# Altium footprint library AnalogHmwpcblib.PcbLib: 11 footprints
Each footprint in its own frame and in the unit in brackets; x right, y up, seen from the top. Pads: shape width x height; smd on the part's side, far side on the other; paste and mask are expansions set on the pad; w line width, h text height; cw(c..) or ccw(c..) is an arc to the next point about the centre after c.
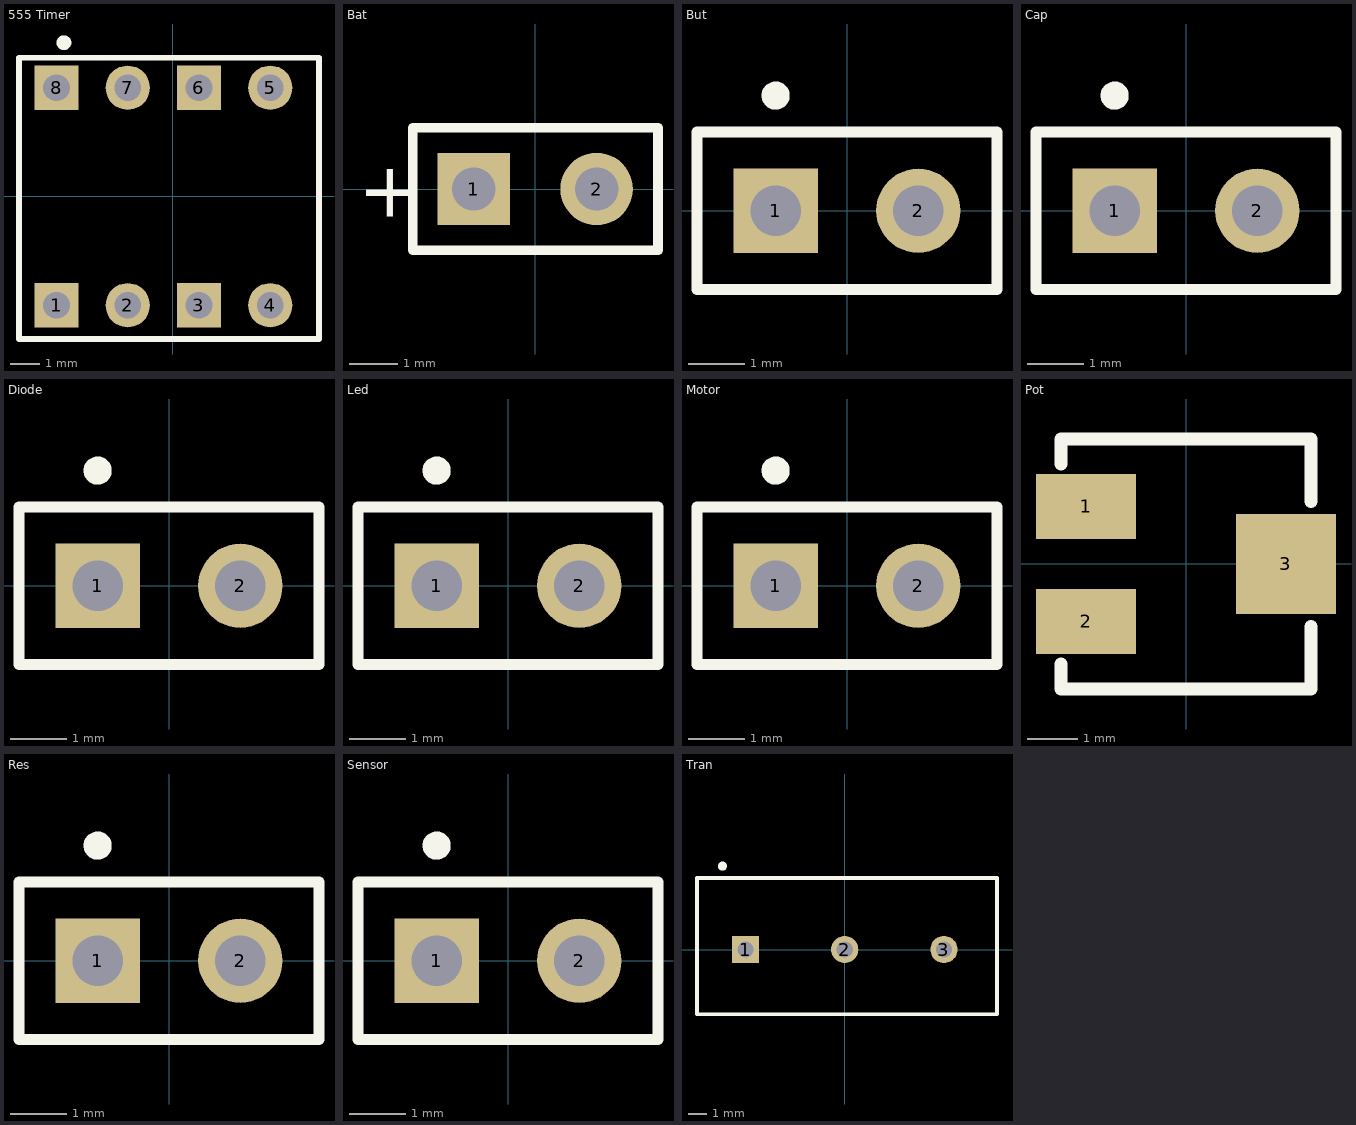
[diagram p0: the footprints below, top view; thin cyan lines are the x and y axes]

## 555 Timer [mm]
pads (8):
  rect 1.5x1.5 hole 0.9: 1(-3.937,-3.683) 3(0.889,-3.683) 6(0.889,3.683) 8(-3.937,3.683)
  round 1.5 hole 0.9: 2(-1.524,-3.683) 4(3.302,-3.683) 5(3.302,3.683) 7(-1.524,3.683)
Top Overlay:
  circle w0.25: c-3.683,5.207 r0.125
  lines w0.2: -5.207,-4.826 -5.207,4.699 4.953,4.699 4.953,-4.826 -5.207,-4.826
3D body "User Library-IC-1.STEP": height 5.52, standoff -2.04, extent -4.89,-3.96 4.89,3.96

## Bat [mm]
pads (2):
  rect 1.5x1.5 hole 0.9: 1(-1.27,0)
  round 1.5 hole 0.9: 2(1.27,0)
Top Overlay:
  lines w0.2: -2.54,-1.27 -2.54,1.27 2.54,1.27 2.54,-1.27 -2.54,-1.27
  text "+" at -3.67,-0.577 h1.15

## But [mm]
pads (2):
  rect 1.5x1.5 hole 0.9: 1(-1.27,0)
  round 1.5 hole 0.9: 2(1.27,0)
Top Overlay:
  circle w0.25: c-1.27,2.05 r0.125
  lines w0.2: -2.67,-1.4 2.67,-1.4 2.67,1.4 -2.67,1.4 -2.67,-1.4

## Cap [mm]
pads (2):
  rect 1.5x1.5 hole 0.9: 1(-1.27,0)
  round 1.5 hole 0.9: 2(1.27,0)
Top Overlay:
  circle w0.25: c-1.27,2.05 r0.125
  lines w0.2: -2.67,-1.4 2.67,-1.4 2.67,1.4 -2.67,1.4 -2.67,-1.4

## Diode [mm]
pads (2):
  rect 1.5x1.5 hole 0.9: 1(-1.27,0)
  round 1.5 hole 0.9: 2(1.27,0)
Top Overlay:
  circle w0.25: c-1.27,2.05 r0.125
  lines w0.2: -2.67,-1.4 -2.67,1.4 2.67,1.4 2.67,-1.4 -2.67,-1.4

## Led [mm]
pads (2):
  rect 1.5x1.5 hole 0.9: 1(-1.27,0)
  round 1.5 hole 0.9: 2(1.27,0)
Top Overlay:
  circle w0.25: c-1.27,2.05 r0.125
  lines w0.2: -2.67,-1.4 2.67,-1.4 2.67,1.4 -2.67,1.4 -2.67,-1.4

## Motor [mm]
pads (2):
  rect 1.5x1.5 hole 0.9: 1(-1.27,0)
  round 1.5 hole 0.9: 2(1.27,0)
Top Overlay:
  circle w0.25: c-1.27,2.05 r0.125
  lines w0.2: -2.67,-1.4 2.67,-1.4 2.67,1.4 -2.67,1.4 -2.67,-1.4

## Pot [mm]
pads (3):
  rect 2x1.3 smd: 1(-2,1.15) 2(-2,-1.15)
  rect 2x2 smd: 3(2,0)
Top Overlay:
  lines w0.254: -2.5,-2 -2.5,-2.5 2.5,-2.5 2.5,-1.25 ; -2.5,2 -2.5,2.5 2.5,2.5 2.5,1.25

## Res [mm]
pads (2):
  rect 1.5x1.5 hole 0.9: 1(-1.27,0)
  round 1.5 hole 0.9: 2(1.27,0)
Top Overlay:
  circle w0.25: c-1.27,2.05 r0.125
  lines w0.2: -2.67,-1.4 -2.67,1.4 2.67,1.4 2.67,-1.4 -2.67,-1.4

## Sensor [mm]
pads (2):
  rect 1.5x1.5 hole 0.9: 1(-1.27,0)
  round 1.5 hole 0.9: 2(1.27,0)
Top Overlay:
  circle w0.25: c-1.27,2.05 r0.125
  lines w0.2: -2.67,-1.4 2.67,-1.4 2.67,1.4 -2.67,1.4 -2.67,-1.4

## Tran [mm]
pads (3):
  rect 1.5x1.5 hole 0.9 square: 1(-5.461,0)
  round 1.5 hole 0.9: 2(0,0) 3(5.461,0)
Top Overlay:
  circle w0.25: c-6.731,4.59 r0.125
  lines w0.2: -8.131,-3.556 8.382,-3.556 8.382,3.94 -8.131,3.94 -8.131,-3.556